# Altium footprint library rcl_PTH.PCBLIB: 348 footprints (part 4 of 22)
Each footprint in its own frame and in the unit in brackets; x right, y up, seen from the top. Pads: shape width x height; smd on the part's side, far side on the other; paste and mask are expansions set on the pad; w line width, h text height; cw(c..) or ccw(c..) is an arc to the next point about the centre after c.
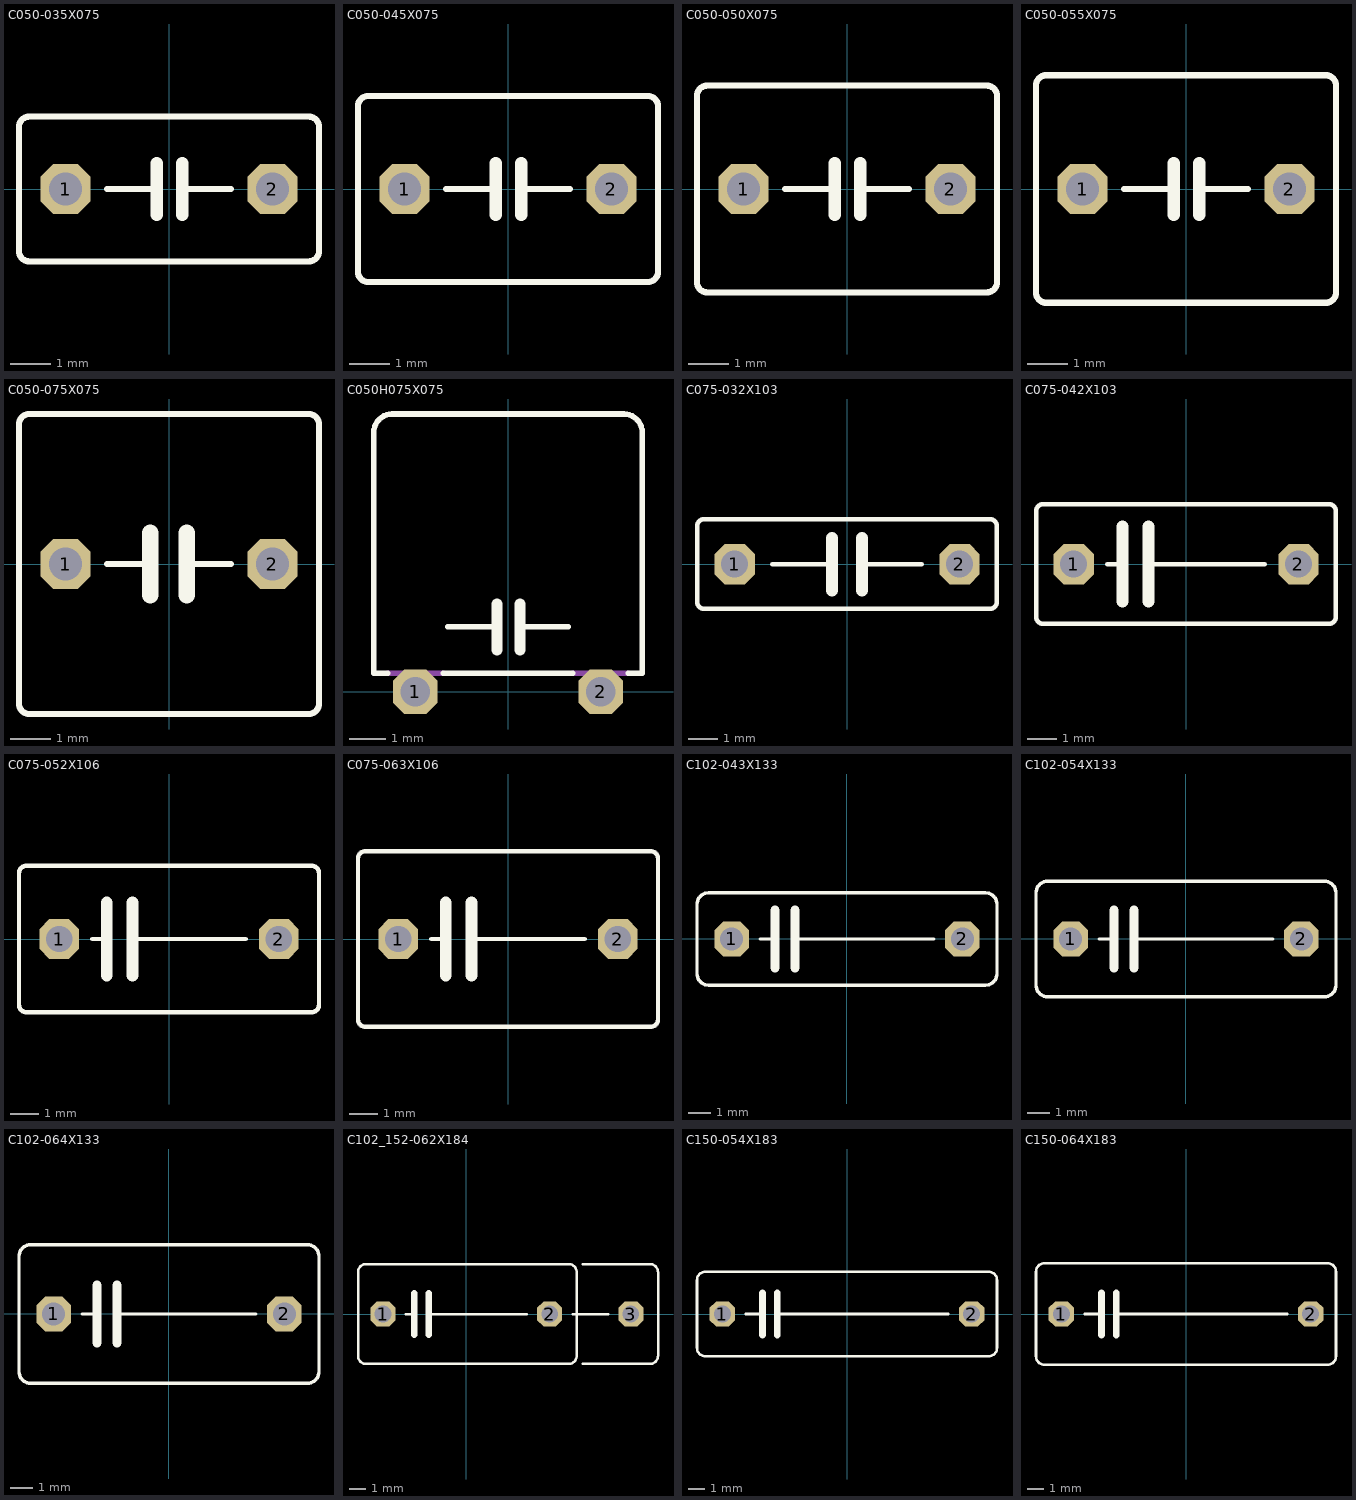
[diagram p3: the footprints below, top view; thin cyan lines are the x and y axes]

## C050-035X075 [mil]
pads (2):
  oct 48x48 hole 32: 1(-100,0) 2(100,0)
Top Overlay:
  lines w6: -60,0 -12,0 ; 13,0 60,0 ; -145,-60 ccw(c-135,-60) -135,-70 135,-70 ccw(c135,-60) 145,-60 145,60 ccw(c135,60) 135,70 -135,70 ccw(c-135,60) -145,60 -145,-60
  lines w12: -12,-25 -12,0 -12,25 ; 13,-25 13,0 13,25

## C050-045X075 [mil]
pads (2):
  oct 48x48 hole 32: 1(-100,0) 2(100,0)
Top Overlay:
  lines w6: -60,0 -12,0 ; 13,0 60,0 ; -145,-80 ccw(c-135,-80) -135,-90 135,-90 ccw(c135,-80) 145,-80 145,80 ccw(c135,80) 135,90 -135,90 ccw(c-135,80) -145,80 -145,-80
  lines w12: -12,-25 -12,0 -12,25 ; 13,-25 13,0 13,25

## C050-050X075 [mil]
pads (2):
  oct 48x48 hole 32: 1(-100,0) 2(100,0)
Top Overlay:
  lines w6: -60,0 -12,0 ; 13,0 60,0 ; -145,-90 ccw(c-135,-90) -135,-100 135,-100 ccw(c135,-90) 145,-90 145,90 ccw(c135,90) 135,100 -135,100 ccw(c-135,90) -145,90 -145,-90
  lines w12: -12,-25 -12,0 -12,25 ; 13,-25 13,0 13,25

## C050-055X075 [mil]
pads (2):
  oct 48x48 hole 32: 1(-100,0) 2(100,0)
Top Overlay:
  lines w6: -60,0 -12,0 ; 13,0 60,0 ; -145,-100 ccw(c-135,-100) -135,-110 135,-110 ccw(c135,-100) 145,-100 145,100 ccw(c135,100) 135,110 -135,110 ccw(c-135,100) -145,100 -145,-100
  lines w12: -12,-25 -12,0 -12,25 ; 13,-25 13,0 13,25

## C050-075X075 [mil]
pads (2):
  oct 48x48 hole 32: 1(-100,0) 2(100,0)
Top Overlay:
  lines w6: -60,0 -18,0 ; 17,0 60,0 ; -145,-135 ccw(c-135,-135) -135,-145 135,-145 ccw(c135,-135) 145,-135 145,135 ccw(c135,135) 135,145 -135,145 ccw(c-135,135) -145,135 -145,-135
  lines w16: -18,-30 -18,0 -18,30 ; 17,-30 17,0 17,30

## C050H075X075 [mil]
pads (2):
  oct 48x48 hole 32: 1(-100,0) 2(100,0)
Top Overlay:
  lines w6: -130,20 -145,20 -145,280 cw(c-125,280) -125,300 125,300 cw(c125,280) 145,280 145,20 130,20 ; -70,20 70,20 ; -65,70 -12,70 ; 13,70 65,70
  lines w12: -12,45 -12,70 -12,95 ; 13,45 13,70 13,95
Mechanical 16:
  rectangle: 90,5 110,20
  rectangle: -110,5 -90,20
  lines w6: -130,20 -70,20 ; 70,20 130,20
  lines w20: -100,0 -100,10 ; 100,0 100,10

## C075-032X103 [mil]
pads (2):
  oct 54x54 hole 36: 1(-150,0) 2(150,0)
Top Overlay:
  lines w6: -100,0 -20,0 ; 20,0 100,0 ; -200,-50 ccw(c-190,-50) -190,-60 190,-60 ccw(c190,-50) 200,-50 200,50 ccw(c190,50) 190,60 -190,60 ccw(c-190,50) -200,50 -200,-50
  lines w16: -20,-35 -20,0 -20,35 ; 20,-35 20,0 20,35

## C075-042X103 [mil]
pads (2):
  oct 54x54 hole 36: 1(-150,0) 2(150,0)
Top Overlay:
  lines w6: -105,0 -85,0 ; -50,0 105,0 ; -200,-70 ccw(c-190,-70) -190,-80 190,-80 ccw(c190,-70) 200,-70 200,70 ccw(c190,70) 190,80 -190,80 ccw(c-190,70) -200,70 -200,-70
  lines w16: -85,-50 -85,0 -85,50 ; -50,-50 -50,0 -50,50

## C075-052X106 [mil]
pads (2):
  oct 54x54 hole 36: 1(-150,0) 2(150,0)
Top Overlay:
  lines w6: -105,0 -85,0 ; -50,0 105,0 ; -205,-90 ccw(c-195,-90) -195,-100 195,-100 ccw(c195,-90) 205,-90 205,90 ccw(c195,90) 195,100 -195,100 ccw(c-195,90) -205,90 -205,-90
  lines w16: -85,-50 -85,0 -85,50 ; -50,-50 -50,0 -50,50

## C075-063X106 [mil]
pads (2):
  oct 54x54 hole 36: 1(-150,0) 2(150,0)
Top Overlay:
  lines w6: -105,0 -85,0 ; -50,0 105,0 ; -205,-110 ccw(c-195,-110) -195,-120 195,-120 ccw(c195,-110) 205,-110 205,110 ccw(c195,110) 195,120 -195,120 ccw(c-195,110) -205,110 -205,-110
  lines w16: -85,-50 -85,0 -85,50 ; -50,-50 -50,0 -50,50
3D body: height 59.06, standoff -39.37, extent -165.61,-15.71 -134.24,15.72
3D body: height 59.06, standoff -39.37, extent 134.38,-15.71 165.75,15.73
3D body: height 295.28, standoff 59.06, extent -205,-120 205,120

## C102-043X133 [mil]
pads (2):
  oct 60x60 hole 40: 1(-200,0) 2(200,0)
Top Overlay:
  lines w6: -150,0 -125,0 ; -90,0 150,0 ; -260,-60 ccw(c-240,-60) -240,-80 240,-80 ccw(c240,-60) 260,-60 260,60 ccw(c240,60) 240,80 -240,80 ccw(c-240,60) -260,60 -260,-60
  lines w16: -125,-50 -125,0 -125,50 ; -90,-50 -90,0 -90,50

## C102-054X133 [mil]
pads (2):
  oct 60x60 hole 40: 1(-200,0) 2(200,0)
Top Overlay:
  lines w6: -150,0 -125,0 ; -90,0 150,0 ; -260,-80 ccw(c-240,-80) -240,-100 240,-100 ccw(c240,-80) 260,-80 260,80 ccw(c240,80) 240,100 -240,100 ccw(c-240,80) -260,80 -260,-80
  lines w16: -125,-50 -125,0 -125,50 ; -90,-50 -90,0 -90,50

## C102-064X133 [mil]
pads (2):
  oct 60x60 hole 40: 1(-200,0) 2(200,0)
Top Overlay:
  lines w6: -150,0 -125,0 ; -90,0 150,0 ; -260,-100 ccw(c-240,-100) -240,-120 240,-120 ccw(c240,-100) 260,-100 260,100 ccw(c240,100) 240,120 -240,120 ccw(c-240,100) -260,100 -260,-100
  lines w16: -125,-50 -125,0 -125,50 ; -90,-50 -90,0 -90,50
3D body "User Library-RAD CAP 12_5MM.STEP": height 439.21, standoff -364.35, extent -245.06,-115 247.06,117.28

## C102_152-062X184 [mil]
pads (3):
  oct 60x60 hole 40: 1(-200,0) 2(200,0) 3(395,0)
Top Overlay:
  lines w6: -145,0 -125,0 ; -90,0 145,0 ; 255,0 340,0 ; 280,-120 440,-120 ccw(c440,-100) 460,-100 460,100 ccw(c440,100) 440,120 280,120 ; -260,-100 ccw(c-240,-100) -240,-120 245,-120 ccw(c245,-100) 265,-100 265,100 ccw(c245,100) 245,120 -240,120 ccw(c-240,100) -260,100 -260,-100
  lines w16: -125,-50 -125,0 -125,50 ; -90,-50 -90,0 -90,50

## C150-054X183 [mil]
pads (2):
  oct 60x60 hole 40: 1(-295,0) 2(295,0)
Top Overlay:
  lines w6: -240,0 -200,0 ; -165,0 240,0 ; -355,-80 ccw(c-335,-80) -335,-100 335,-100 ccw(c335,-80) 355,-80 355,80 ccw(c335,80) 335,100 -335,100 ccw(c-335,80) -355,80 -355,-80
  lines w16: -200,-50 -200,0 -200,50 ; -165,-50 -165,0 -165,50

## C150-064X183 [mil]
pads (2):
  oct 60x60 hole 40: 1(-295,0) 2(295,0)
Top Overlay:
  lines w6: -240,0 -200,0 ; -165,0 240,0 ; -355,-100 ccw(c-335,-100) -335,-120 335,-120 ccw(c335,-100) 355,-100 355,100 ccw(c335,100) 335,120 -335,120 ccw(c-335,100) -355,100 -355,-100
  lines w16: -200,-50 -200,0 -200,50 ; -165,-50 -165,0 -165,50